# Altium integrated library ECE AD19Components_22V1.IntLib: 365 symbols (part 4 of 4)
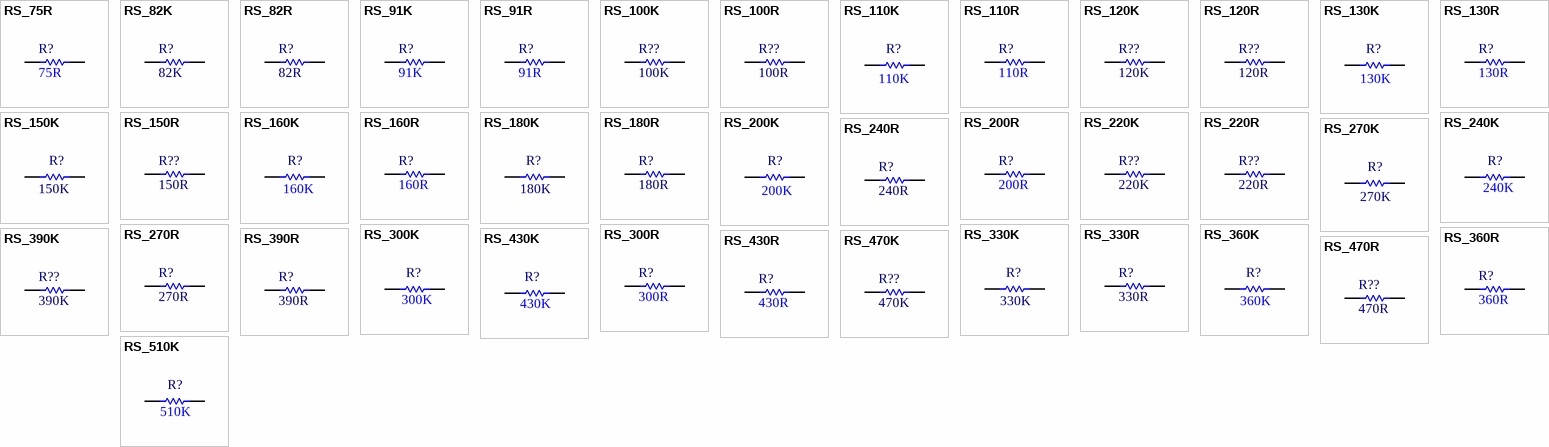
[diagram p15: symbols RS_75R to RS_510K]

## RS_240R
designator R?, comment 240R
RES 240 OHM 1/10W 5% 0603 SMD; Storage Location: PCB Assembly WS; Supplier: ECE Dept; Value: 240R
simulation model RESISTOR (Resistor)
signal-integrity model Res
footprint RESC1608L (Chip Resistor, Body 1.6x0.8mm, IPC High Density)
footprint RESC1608N (Chip Resistor, Body 1.6x0.8mm, IPC Medium Density)
pins: 1, 2

## RS_270K
designator R?, comment 270K
RES 270K OHM 1/10W 5% 0603 SMD; Storage Location: PCB Assembly WS; Supplier: ECE Dept; Value: 270K
footprint RESC1608L (Chip Resistor, Body 1.6x0.8mm, IPC High Density)
footprint RESC1608N (Chip Resistor, Body 1.6x0.8mm, IPC Medium Density)
signal-integrity model Res (Model Description)
simulation model RES (resistor)
pins: 1, 2

## RS_270R
designator R?, comment 270R
RES 270 OHM 1/10W 5% 0603 SMD; Storage Location: PCB Assembly WS; Supplier: ECE Dept; Value: 270R
simulation model RESISTOR (Resistor)
signal-integrity model Res
footprint RESC1608L (Chip Resistor, Body 1.6x0.8mm, IPC High Density)
footprint RESC1608N (Chip Resistor, Body 1.6x0.8mm, IPC Medium Density)
pins: 1, 2

## RS_300K
designator R?, comment 300K
RES 300K OHM 1/10W 5% 0603 SMD; Storage Location: PCB Assembly WS; Supplier: ECE Dept; Value: 300K
footprint RESC1608L (Chip Resistor, Body 1.6x0.8mm, IPC High Density)
footprint RESC1608N (Chip Resistor, Body 1.6x0.8mm, IPC Medium Density)
signal-integrity model Res (Model Description)
simulation model RES (resistor)
pins: 1, 2

## RS_300R
designator R?, comment 300R
RES 300 OHM 1/10W 5% 0603 SMD; Storage Location: PCB Assembly WS; Supplier: ECE Dept; Value: 300R
simulation model RESISTOR (Resistor)
signal-integrity model Res
footprint RESC1608L (Chip Resistor, Body 1.6x0.8mm, IPC High Density)
footprint RESC1608N (Chip Resistor, Body 1.6x0.8mm, IPC Medium Density)
pins: 1, 2

## RS_330K
designator R?, comment 330K
RES 330K OHM 1/10W 5% 0603 SMD; Storage Location: PCB Assembly WS; Supplier: ECE Dept; Value: 330K
footprint RESC1608L (Chip Resistor, Body 1.6x0.8mm, IPC High Density)
footprint RESC1608N (Chip Resistor, Body 1.6x0.8mm, IPC Medium Density)
signal-integrity model Res (Model Description)
simulation model RES (resistor)
pins: 1, 2

## RS_330R
designator R?, comment 330R
RES 330 OHM 1/10W 5% 0603 SMD; Storage Location: PCB Assembly WS; Supplier: ECE Dept; Value: 330R
simulation model RESISTOR (Resistor)
signal-integrity model Res
footprint RESC1608L (Chip Resistor, Body 1.6x0.8mm, IPC High Density)
footprint RESC1608N (Chip Resistor, Body 1.6x0.8mm, IPC Medium Density)
pins: 1, 2

## RS_360K
designator R?, comment 360K
RES 360K OHM 1/10W 5% 0603 SMD; Storage Location: PCB Assembly WS; Supplier: ECE Dept; Value: 360K
footprint RESC1608L (Chip Resistor, Body 1.6x0.8mm, IPC High Density)
footprint RESC1608N (Chip Resistor, Body 1.6x0.8mm, IPC Medium Density)
signal-integrity model Res (Model Description)
simulation model RES (resistor)
pins: 1, 2

## RS_360R
designator R?, comment 360R
RES 360 OHM 1/10W 5% 0603 SMD; Storage Location: PCB Assembly WS; Supplier: ECE Dept; Value: 360R
simulation model RESISTOR (Resistor)
signal-integrity model Res
footprint RESC1608L (Chip Resistor, Body 1.6x0.8mm, IPC High Density)
footprint RESC1608N (Chip Resistor, Body 1.6x0.8mm, IPC Medium Density)
pins: 1, 2

## RS_390K
designator R??, comment 390K
RES 390K OHM 1/10W 5% 0603 SMD; Storage Location: PCB Assembly WS; Supplier: ECE Dept; Value: 390K
simulation model RESISTOR (Resistor)
signal-integrity model Res
footprint RESC1608L (Chip Resistor, Body 1.6x0.8mm, IPC High Density)
footprint RESC1608N (Chip Resistor, Body 1.6x0.8mm, IPC Medium Density)
pins: 1, 2

## RS_390R
designator R?, comment 390R
RES 390 OHM 1/10W 5% 0603 SMD; Storage Location: PCB Assembly WS; Supplier: ECE Dept; Value: 390R
simulation model RESISTOR (Resistor)
signal-integrity model Res
footprint RESC1608L (Chip Resistor, Body 1.6x0.8mm, IPC High Density)
footprint RESC1608N (Chip Resistor, Body 1.6x0.8mm, IPC Medium Density)
pins: 1, 2

## RS_430K
designator R?, comment 430K
RES 430K OHM 1/10W 5% 0603 SMD; Storage Location: PCB Assembly WS; Supplier: ECE Dept; Value: 430K
footprint RESC1608L (Chip Resistor, Body 1.6x0.8mm, IPC High Density)
footprint RESC1608N (Chip Resistor, Body 1.6x0.8mm, IPC Medium Density)
signal-integrity model Res (Model Description)
simulation model RES (resistor)
pins: 1, 2

## RS_430R
designator R?, comment 430R
RES 430 OHM 1/10W 5% 0603 SMD; Storage Location: PCB Assembly WS; Supplier: ECE Dept; Value: 430R
simulation model RESISTOR (Resistor)
signal-integrity model Res
footprint RESC1608L (Chip Resistor, Body 1.6x0.8mm, IPC High Density)
footprint RESC1608N (Chip Resistor, Body 1.6x0.8mm, IPC Medium Density)
pins: 1, 2

## RS_470K
designator R??, comment 470K
RES 470K OHM 1/10W 5% 0603 SMD; Storage Location: PCB Assembly WS; Supplier: ECE Dept; Value: 470K
simulation model RESISTOR (Resistor)
signal-integrity model Res
footprint RESC1608L (Chip Resistor, Body 1.6x0.8mm, IPC High Density)
footprint RESC1608N (Chip Resistor, Body 1.6x0.8mm, IPC Medium Density)
pins: 1, 2

## RS_470R
designator R??, comment 470R
RES 470 OHM 1/10W 5% 0603 SMD; Storage Location: PCB Assembly WS; Supplier: ECE Dept; Value: 470R
simulation model RESISTOR (Resistor)
signal-integrity model Res
footprint RESC1608L (Chip Resistor, Body 1.6x0.8mm, IPC High Density)
footprint RESC1608N (Chip Resistor, Body 1.6x0.8mm, IPC Medium Density)
pins: 1, 2

## RS_510K
designator R?, comment 510K
RES 510K OHM 1/10W 5% 0603 SMD; Storage Location: PCB Assembly WS; Supplier: ECE Dept; Value: 510K
footprint RESC1608L (Chip Resistor, Body 1.6x0.8mm, IPC High Density)
footprint RESC1608N (Chip Resistor, Body 1.6x0.8mm, IPC Medium Density)
signal-integrity model Res (Model Description)
simulation model RES (resistor)
pins: 1, 2

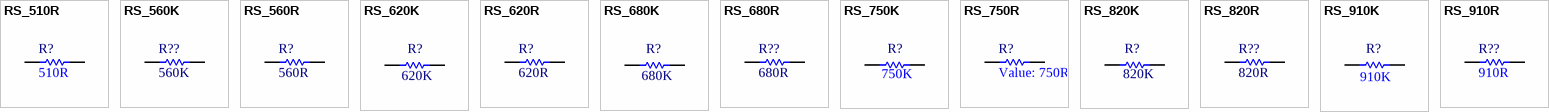
[diagram p10: symbols RS_510R to RS_910R]

## RS_510R
designator R?, comment 510R
RES 510 OHM 1/10W 5% 0603 SMD; Storage Location: PCB Assembly WS; Supplier: ECE Dept; Value: 510R
simulation model RESISTOR (Resistor)
signal-integrity model Res
footprint RESC1608L (Chip Resistor, Body 1.6x0.8mm, IPC High Density)
footprint RESC1608N (Chip Resistor, Body 1.6x0.8mm, IPC Medium Density)
pins: 1, 2

## RS_560K
designator R??, comment 560K
RES 560K OHM 1/10W 5% 0603 SMD; Storage Location: PCB Assembly WS; Supplier: ECE Dept; Value: 560K
simulation model RESISTOR (Resistor)
signal-integrity model Res
footprint RESC1608L (Chip Resistor, Body 1.6x0.8mm, IPC High Density)
footprint RESC1608N (Chip Resistor, Body 1.6x0.8mm, IPC Medium Density)
pins: 1, 2

## RS_560R
designator R?, comment 560R
RES 560 OHM 1/10W 5% 0603 SMD; Storage Location: PCB Assembly WS; Supplier: ECE Dept; Value: 560R
simulation model RESISTOR (Resistor)
signal-integrity model Res
footprint RESC1608L (Chip Resistor, Body 1.6x0.8mm, IPC High Density)
footprint RESC1608N (Chip Resistor, Body 1.6x0.8mm, IPC Medium Density)
pins: 1, 2

## RS_620K
designator R?, comment 620K
RES 620K OHM 1/10W 5% 0603 SMD; Storage Location: PCB Assembly WS; Supplier: ECE Dept; Value: 620K
footprint RESC1608L (Chip Resistor, Body 1.6x0.8mm, IPC High Density)
footprint RESC1608N (Chip Resistor, Body 1.6x0.8mm, IPC Medium Density)
signal-integrity model Res (Model Description)
simulation model RES (resistor)
pins: 1, 2

## RS_620R
designator R?, comment 620R
RES 620 OHM 1/10W 5% 0603 SMD; Storage Location: PCB Assembly WS; Supplier: ECE Dept; Value: 620R
simulation model RESISTOR (Resistor)
signal-integrity model Res
footprint RESC1608L (Chip Resistor, Body 1.6x0.8mm, IPC High Density)
footprint RESC1608N (Chip Resistor, Body 1.6x0.8mm, IPC Medium Density)
pins: 1, 2

## RS_680K
designator R?, comment 680K
RES 680K OHM 1/10W 5% 0603 SMD; Storage Location: PCB Assembly WS; Supplier: ECE Dept; Value: 680K
footprint RESC1608L (Chip Resistor, Body 1.6x0.8mm, IPC High Density)
footprint RESC1608N (Chip Resistor, Body 1.6x0.8mm, IPC Medium Density)
signal-integrity model Res (Model Description)
simulation model RES (resistor)
pins: 1, 2

## RS_680R
designator R??, comment 680R
RES 680 OHM 1/10W 5% 0603 SMD; Storage Location: PCB Assembly WS; Supplier: ECE Dept; Value: 680R
simulation model RESISTOR (Resistor)
signal-integrity model Res
footprint RESC1608L (Chip Resistor, Body 1.6x0.8mm, IPC High Density)
footprint RESC1608N (Chip Resistor, Body 1.6x0.8mm, IPC Medium Density)
pins: 1, 2

## RS_750K
designator R?, comment 750K
RES 750K OHM 1/10W 5% 0603 SMD; Storage Location: PCB Assembly WS; Supplier: ECE Dept; Value: 750K
footprint RESC1608L (Chip Resistor, Body 1.6x0.8mm, IPC High Density)
footprint RESC1608N (Chip Resistor, Body 1.6x0.8mm, IPC Medium Density)
signal-integrity model Res (Model Description)
simulation model RES (resistor)
pins: 1, 2

## RS_750R
designator R?, comment 750R
RES 750 OHM 1/10W 5% 0603 SMD; Storage Location: PCB Assembly WS; Supplier: ECE Dept; Value: 750R
simulation model RESISTOR (Resistor)
signal-integrity model Res
footprint RESC1608L (Chip Resistor, Body 1.6x0.8mm, IPC High Density)
footprint RESC1608N (Chip Resistor, Body 1.6x0.8mm, IPC Medium Density)
pins: 1, 2

## RS_820K
designator R?, comment 820K
RES 820K OHM 1/10W 5% 0603 SMD; Storage Location: PCB Assembly WS; Supplier: ECE Dept; Value: 820K
footprint RESC1608L (Chip Resistor, Body 1.6x0.8mm, IPC High Density)
footprint RESC1608N (Chip Resistor, Body 1.6x0.8mm, IPC Medium Density)
signal-integrity model Res (Model Description)
simulation model RES (resistor)
pins: 1, 2

## RS_820R
designator R??, comment 820R
RES 820 OHM 1/10W 5% 0603 SMD; Storage Location: PCB Assembly WS; Supplier: ECE Dept; Value: 820R
simulation model RESISTOR (Resistor)
signal-integrity model Res
footprint RESC1608L (Chip Resistor, Body 1.6x0.8mm, IPC High Density)
footprint RESC1608N (Chip Resistor, Body 1.6x0.8mm, IPC Medium Density)
pins: 1, 2

## RS_910K
designator R?, comment 910K
RES 910K OHM 1/10W 5% 0603 SMD; Storage Location: PCB Assembly WS; Supplier: ECE Dept; Value: 910K
footprint RESC1608L (Chip Resistor, Body 1.6x0.8mm, IPC High Density)
footprint RESC1608N (Chip Resistor, Body 1.6x0.8mm, IPC Medium Density)
signal-integrity model Res (Model Description)
simulation model RES (resistor)
pins: 1, 2

## RS_910R
designator R??, comment 910R
RES 910 OHM 1/10W 5% 0603 SMD; Storage Location: PCB Assembly WS; Supplier: ECE Dept; Value: 910R
simulation model RESISTOR (Resistor)
signal-integrity model Res
footprint RESC1608L (Chip Resistor, Body 1.6x0.8mm, IPC High Density)
footprint RESC1608N (Chip Resistor, Body 1.6x0.8mm, IPC Medium Density)
pins: 1, 2


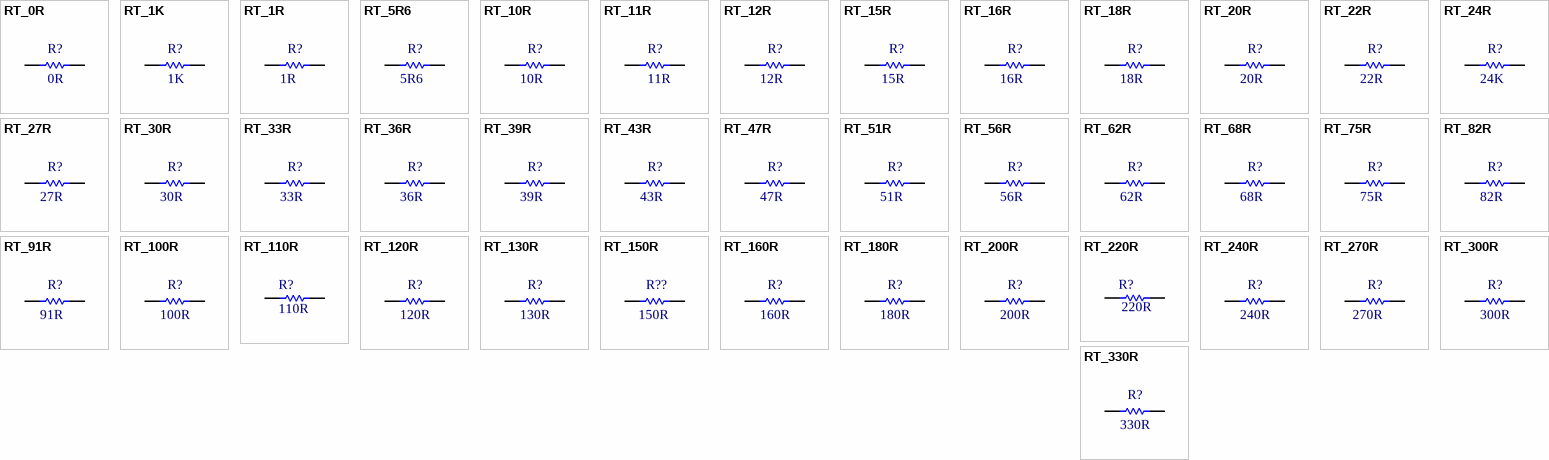
[diagram p11: symbols RT_0R to RT_330R]

## RT_0R
designator R?, comment 0R
RES 0R OHM 1/8W 5% 1206 SMD; Storage Location: PCB Assembly WS; Supplier: ECE Dept; Value: 0R
footprint RESC3216L (Chip Resistor, Body 3.1x1.6mm, IPC High Density)
footprint RESC3216M (Chip Resistor, Body 3.2x1.6mm, IPC Low Density)
footprint RESC3216N (Chip Resistor, Body 3.2x1.6mm, IPC Medium Density)
pins: 1, 2

## RT_1K
designator R?, comment 1K
RES 1K OHM 1/4W 5% 1206 SMD; Storage Location: PCB Assembly WS; Supplier: ECE Dept; Value: 1K
footprint RESC3216L (Chip Resistor, Body 3.1x1.6mm, IPC High Density)
footprint RESC3216M (Chip Resistor, Body 3.2x1.6mm, IPC Low Density)
footprint RESC3216N (Chip Resistor, Body 3.2x1.6mm, IPC Medium Density)
pins: 1, 2

## RT_1R
designator R?, comment 1R
RES 1R OHM 1/4W 5% 1206 SMD; Storage Location: PCB Assembly WS; Supplier: ECE Dept; Value: 1R
footprint RESC3216L (Chip Resistor, Body 3.1x1.6mm, IPC High Density)
footprint RESC3216M (Chip Resistor, Body 3.2x1.6mm, IPC Low Density)
footprint RESC3216N (Chip Resistor, Body 3.2x1.6mm, IPC Medium Density)
pins: 1, 2

## RT_5R6
designator R?, comment 5R6
RES 5R6 OHM 1/4W 5% 1206 SMD; Storage Location: PCB Assembly WS; Supplier: ECE Dept; Value: 5R6
footprint RESC3216L (Chip Resistor, Body 3.1x1.6mm, IPC High Density)
footprint RESC3216M (Chip Resistor, Body 3.2x1.6mm, IPC Low Density)
footprint RESC3216N (Chip Resistor, Body 3.2x1.6mm, IPC Medium Density)
pins: 1, 2

## RT_10R
designator R?, comment 10R
RES 10R OHM 1/4W 5% 1206 SMD; Storage Location: PCB Assembly WS; Supplier: ECE Dept; Value: 10R
footprint RESC3216L (Chip Resistor, Body 3.1x1.6mm, IPC High Density)
footprint RESC3216M (Chip Resistor, Body 3.2x1.6mm, IPC Low Density)
footprint RESC3216N (Chip Resistor, Body 3.2x1.6mm, IPC Medium Density)
pins: 1, 2

## RT_11R
designator R?, comment 11R
RES 11R OHM 1/4W 5% 1206 SMD; Storage Location: PCB Assembly WS; Supplier: ECE Dept; Value: 11R
footprint RESC3216L (Chip Resistor, Body 3.1x1.6mm, IPC High Density)
footprint RESC3216M (Chip Resistor, Body 3.2x1.6mm, IPC Low Density)
footprint RESC3216N (Chip Resistor, Body 3.2x1.6mm, IPC Medium Density)
pins: 1, 2

## RT_12R
designator R?, comment 12R
RES 12R OHM 1/4W 5% 1206 SMD; Storage Location: PCB Assembly WS; Supplier: ECE Dept; Value: 12R
footprint RESC3216L (Chip Resistor, Body 3.1x1.6mm, IPC High Density)
footprint RESC3216M (Chip Resistor, Body 3.2x1.6mm, IPC Low Density)
footprint RESC3216N (Chip Resistor, Body 3.2x1.6mm, IPC Medium Density)
pins: 1, 2

## RT_15R
designator R?, comment 15R
RES 15R OHM 1/4W 5% 1206 SMD; Storage Location: PCB Assembly WS; Supplier: ECE Dept; Value: 15R
footprint RESC3216L (Chip Resistor, Body 3.1x1.6mm, IPC High Density)
footprint RESC3216M (Chip Resistor, Body 3.2x1.6mm, IPC Low Density)
footprint RESC3216N (Chip Resistor, Body 3.2x1.6mm, IPC Medium Density)
signal-integrity model Res (Resistor)
pins: 1, 2

## RT_16R
designator R?, comment 16R
RES 16R OHM 1/4W 5% 1206 SMD; Storage Location: PCB Assembly WS; Supplier: ECE Dept; Value: 16R
footprint RESC3216L (Chip Resistor, Body 3.1x1.6mm, IPC High Density)
footprint RESC3216M (Chip Resistor, Body 3.2x1.6mm, IPC Low Density)
footprint RESC3216N (Chip Resistor, Body 3.2x1.6mm, IPC Medium Density)
pins: 1, 2

## RT_18R
designator R?, comment 18R
RES 18R OHM 1/4W 5% 1206 SMD; Storage Location: PCB Assembly WS; Supplier: ECE Dept; Value: 18R
footprint RESC3216L (Chip Resistor, Body 3.1x1.6mm, IPC High Density)
footprint RESC3216M (Chip Resistor, Body 3.2x1.6mm, IPC Low Density)
footprint RESC3216N (Chip Resistor, Body 3.2x1.6mm, IPC Medium Density)
pins: 1, 2

## RT_20R
designator R?, comment 20R
RES 20R OHM 1/4W 5% 1206 SMD; Storage Location: PCB Assembly WS; Supplier: ECE Dept; Value: 20R
footprint RESC3216L (Chip Resistor, Body 3.1x1.6mm, IPC High Density)
footprint RESC3216M (Chip Resistor, Body 3.2x1.6mm, IPC Low Density)
footprint RESC3216N (Chip Resistor, Body 3.2x1.6mm, IPC Medium Density)
pins: 1, 2

## RT_22R
designator R?, comment 22R
RES 22R OHM 1/4W 5% 1206 SMD; Storage Location: PCB Assembly WS; Supplier: ECE Dept; Value: 22R
footprint RESC3216L (Chip Resistor, Body 3.1x1.6mm, IPC High Density)
footprint RESC3216M (Chip Resistor, Body 3.2x1.6mm, IPC Low Density)
footprint RESC3216N (Chip Resistor, Body 3.2x1.6mm, IPC Medium Density)
pins: 1, 2

## RT_24R
designator R?, comment 24K
RES 24R OHM 1/4W 5% 1206 SMD; Storage Location: PCB Assembly WS; Supplier: ECE Dept; Value: 24K
footprint RESC3216L (Chip Resistor, Body 3.1x1.6mm, IPC High Density)
footprint RESC3216M (Chip Resistor, Body 3.2x1.6mm, IPC Low Density)
footprint RESC3216N (Chip Resistor, Body 3.2x1.6mm, IPC Medium Density)
pins: 1, 2

## RT_27R
designator R?, comment 27R
RES 27R OHM 1/4W 5% 1206 SMD; Storage Location: PCB Assembly WS; Supplier: ECE Dept; Value: 27R
footprint RESC3216L (Chip Resistor, Body 3.1x1.6mm, IPC High Density)
footprint RESC3216M (Chip Resistor, Body 3.2x1.6mm, IPC Low Density)
footprint RESC3216N (Chip Resistor, Body 3.2x1.6mm, IPC Medium Density)
pins: 1, 2

## RT_30R
designator R?, comment 30R
RES 30R OHM 1/4W 5% 1206 SMD; Storage Location: PCB Assembly WS; Supplier: ECE Dept; Value: 30R
footprint RESC3216L (Chip Resistor, Body 3.1x1.6mm, IPC High Density)
footprint RESC3216M (Chip Resistor, Body 3.2x1.6mm, IPC Low Density)
footprint RESC3216N (Chip Resistor, Body 3.2x1.6mm, IPC Medium Density)
pins: 1, 2

## RT_33R
designator R?, comment 33R
RES 33R OHM 1/4W 5% 1206 SMD; Storage Location: PCB Assembly WS; Supplier: ECE Dept; Value: 33R
footprint RESC3216L (Chip Resistor, Body 3.1x1.6mm, IPC High Density)
footprint RESC3216M (Chip Resistor, Body 3.2x1.6mm, IPC Low Density)
footprint RESC3216N (Chip Resistor, Body 3.2x1.6mm, IPC Medium Density)
pins: 1, 2

## RT_36R
designator R?, comment 36R
RES 36R OHM 1/4W 5% 1206 SMD; Storage Location: PCB Assembly WS; Supplier: ECE Dept; Value: 36R
footprint RESC3216L (Chip Resistor, Body 3.1x1.6mm, IPC High Density)
footprint RESC3216M (Chip Resistor, Body 3.2x1.6mm, IPC Low Density)
footprint RESC3216N (Chip Resistor, Body 3.2x1.6mm, IPC Medium Density)
pins: 1, 2

## RT_39R
designator R?, comment 39R
RES 39R OHM 1/4W 5% 1206 SMD; Storage Location: PCB Assembly WS; Supplier: ECE Dept; Value: 39R
footprint RESC3216L (Chip Resistor, Body 3.1x1.6mm, IPC High Density)
footprint RESC3216M (Chip Resistor, Body 3.2x1.6mm, IPC Low Density)
footprint RESC3216N (Chip Resistor, Body 3.2x1.6mm, IPC Medium Density)
pins: 1, 2

## RT_43R
designator R?, comment 43R
RES 43R OHM 1/4W 5% 1206 SMD; Storage Location: PCB Assembly WS; Supplier: ECE Dept; Value: 43R
footprint RESC3216L (Chip Resistor, Body 3.1x1.6mm, IPC High Density)
footprint RESC3216M (Chip Resistor, Body 3.2x1.6mm, IPC Low Density)
footprint RESC3216N (Chip Resistor, Body 3.2x1.6mm, IPC Medium Density)
pins: 1, 2

## RT_47R
designator R?, comment 47R
RES 47R OHM 1/4W 5% 1206 SMD; Storage Location: PCB Assembly WS; Supplier: ECE Dept; Value: 47R
footprint RESC3216L (Chip Resistor, Body 3.1x1.6mm, IPC High Density)
footprint RESC3216M (Chip Resistor, Body 3.2x1.6mm, IPC Low Density)
footprint RESC3216N (Chip Resistor, Body 3.2x1.6mm, IPC Medium Density)
pins: 1, 2

## RT_51R
designator R?, comment 51R
RES 51R OHM 1/4W 5% 1206 SMD; Storage Location: PCB Assembly WS; Supplier: ECE Dept; Value: 51R
footprint RESC3216L (Chip Resistor, Body 3.1x1.6mm, IPC High Density)
footprint RESC3216M (Chip Resistor, Body 3.2x1.6mm, IPC Low Density)
footprint RESC3216N (Chip Resistor, Body 3.2x1.6mm, IPC Medium Density)
pins: 1, 2

## RT_56R
designator R?, comment 56R
RES 56R OHM 1/4W 5% 1206 SMD; Storage Location: PCB Assembly WS; Supplier: ECE Dept; Value: 56R
footprint RESC3216L (Chip Resistor, Body 3.1x1.6mm, IPC High Density)
footprint RESC3216M (Chip Resistor, Body 3.2x1.6mm, IPC Low Density)
footprint RESC3216N (Chip Resistor, Body 3.2x1.6mm, IPC Medium Density)
pins: 1, 2

## RT_62R
designator R?, comment 62R
RES 62R OHM 1/4W 5% 1206 SMD; Storage Location: PCB Assembly WS; Supplier: ECE Dept; Value: 62R
footprint RESC3216L (Chip Resistor, Body 3.1x1.6mm, IPC High Density)
footprint RESC3216M (Chip Resistor, Body 3.2x1.6mm, IPC Low Density)
footprint RESC3216N (Chip Resistor, Body 3.2x1.6mm, IPC Medium Density)
pins: 1, 2

## RT_68R
designator R?, comment 68R
RES 68R OHM 1/4W 5% 1206 SMD; Storage Location: PCB Assembly WS; Supplier: ECE Dept; Value: 68R
footprint RESC3216L (Chip Resistor, Body 3.1x1.6mm, IPC High Density)
footprint RESC3216M (Chip Resistor, Body 3.2x1.6mm, IPC Low Density)
footprint RESC3216N (Chip Resistor, Body 3.2x1.6mm, IPC Medium Density)
pins: 1, 2

## RT_75R
designator R?, comment 75R
RES 75R OHM 1/4W 5% 1206 SMD; Storage Location: PCB Assembly WS; Supplier: ECE Dept; Value: 75R
footprint RESC3216L (Chip Resistor, Body 3.1x1.6mm, IPC High Density)
footprint RESC3216M (Chip Resistor, Body 3.2x1.6mm, IPC Low Density)
footprint RESC3216N (Chip Resistor, Body 3.2x1.6mm, IPC Medium Density)
pins: 1, 2

## RT_82R
designator R?, comment 82R
RES 82R OHM 1/4W 5% 1206 SMD; Storage Location: PCB Assembly WS; Supplier: ECE Dept; Value: 82R
footprint RESC3216L (Chip Resistor, Body 3.1x1.6mm, IPC High Density)
footprint RESC3216M (Chip Resistor, Body 3.2x1.6mm, IPC Low Density)
footprint RESC3216N (Chip Resistor, Body 3.2x1.6mm, IPC Medium Density)
pins: 1, 2

## RT_91R
designator R?, comment 91R
RES 91R OHM 1/4W 5% 1206 SMD; Storage Location: PCB Assembly WS; Supplier: ECE Dept; Value: 91R
footprint RESC3216L (Chip Resistor, Body 3.1x1.6mm, IPC High Density)
footprint RESC3216M (Chip Resistor, Body 3.2x1.6mm, IPC Low Density)
footprint RESC3216N (Chip Resistor, Body 3.2x1.6mm, IPC Medium Density)
pins: 1, 2

## RT_100R
designator R?, comment 100R
RES 100R OHM 1/4W 5% 1206 SMD; Storage Location: PCB Assembly WS; Supplier: ECE Dept; Value: 100R
footprint RESC3216L (Chip Resistor, Body 3.1x1.6mm, IPC High Density)
footprint RESC3216M (Chip Resistor, Body 3.2x1.6mm, IPC Low Density)
footprint RESC3216N (Chip Resistor, Body 3.2x1.6mm, IPC Medium Density)
pins: 1, 2

## RT_110R
designator R?, comment 110R
RES 110R OHM 1/4W 5% 1206 SMD; Verify: *; Storage Location: PCB Assembly WS; Supplier: ECE Dept; Value: 110R
footprint RESC3216L (Chip Resistor, Body 3.1x1.6mm, IPC High Density)
footprint RESC3216M (Chip Resistor, Body 3.2x1.6mm, IPC Low Density)
footprint RESC3216N (Chip Resistor, Body 3.2x1.6mm, IPC Medium Density)
pins: 1, 2

## RT_120R
designator R?, comment 120R
RES 12OR OHM 1/4W 5% 1206 SMD; Storage Location: PCB Assembly WS; Supplier: ECE Dept; Value: 120R
footprint RESC3216L (Chip Resistor, Body 3.1x1.6mm, IPC High Density)
footprint RESC3216M (Chip Resistor, Body 3.2x1.6mm, IPC Low Density)
footprint RESC3216N (Chip Resistor, Body 3.2x1.6mm, IPC Medium Density)
pins: 1, 2

## RT_130R
designator R?, comment 130R
RES 130R OHM 1/4W 5% 1206 SMD; Storage Location: PCB Assembly WS; Supplier: ECE Dept; Value: 130R
footprint RESC3216L (Chip Resistor, Body 3.1x1.6mm, IPC High Density)
footprint RESC3216M (Chip Resistor, Body 3.2x1.6mm, IPC Low Density)
footprint RESC3216N (Chip Resistor, Body 3.2x1.6mm, IPC Medium Density)
pins: 1, 2

## RT_150R
designator R??, comment 150R
RES 150R OHM 1/4W 5% 1206 SMD; Storage Location: PCB Assembly WS; Supplier: ECE Dept; Value: 150R
footprint RESC3216M (Chip Resistor, Body 3.2x1.6mm, IPC Low Density)
footprint RESC3216L (Chip Resistor, Body 3.1x1.6mm, IPC High Density)
footprint RESC3216N (Chip Resistor, Body 3.2x1.6mm, IPC Medium Density)
pins: 1, 2

## RT_160R
designator R?, comment 160R
RES 160R OHM 1/4W 5% 1206 SMD; Storage Location: PCB Assembly WS; Supplier: ECE Dept; Value: 160R
footprint RESC3216L (Chip Resistor, Body 3.1x1.6mm, IPC High Density)
footprint RESC3216M (Chip Resistor, Body 3.2x1.6mm, IPC Low Density)
footprint RESC3216N (Chip Resistor, Body 3.2x1.6mm, IPC Medium Density)
pins: 1, 2

## RT_180R
designator R?, comment 180R
RES 180R OHM 1/4W 5% 1206 SMD; Storage Location: PCB Assembly WS; Supplier: ECE Dept; Value: 180R
footprint RESC3216L (Chip Resistor, Body 3.1x1.6mm, IPC High Density)
footprint RESC3216M (Chip Resistor, Body 3.2x1.6mm, IPC Low Density)
footprint RESC3216N (Chip Resistor, Body 3.2x1.6mm, IPC Medium Density)
pins: 1, 2

## RT_200R
designator R?, comment 200R
RES 200R OHM 1/4W 5% 1206 SMD; Storage Location: PCB Assembly WS; Supplier: ECE Dept; Value: 200R
footprint RESC3216L (Chip Resistor, Body 3.1x1.6mm, IPC High Density)
footprint RESC3216M (Chip Resistor, Body 3.2x1.6mm, IPC Low Density)
footprint RESC3216N (Chip Resistor, Body 3.2x1.6mm, IPC Medium Density)
pins: 1, 2

## RT_220R
designator R?, comment 220R
RES 220R OHM 1/4W 5% 1206 SMD; Storage Location: PCB Assembly WS; Supplier: ECE Dept; Value: 220R
footprint RESC3216L (Chip Resistor, Body 3.1x1.6mm, IPC High Density)
footprint RESC3216M (Chip Resistor, Body 3.2x1.6mm, IPC Low Density)
footprint RESC3216N (Chip Resistor, Body 3.2x1.6mm, IPC Medium Density)
pins: 1, 2

## RT_240R
designator R?, comment 240R
RES 240R OHM 1/4W 5% 1206 SMD; Storage Location: PCB Assembly WS; Supplier: ECE Dept; Value: 240R
footprint RESC3216L (Chip Resistor, Body 3.1x1.6mm, IPC High Density)
footprint RESC3216M (Chip Resistor, Body 3.2x1.6mm, IPC Low Density)
footprint RESC3216N (Chip Resistor, Body 3.2x1.6mm, IPC Medium Density)
pins: 1, 2

## RT_270R
designator R?, comment 270R
RES 270R OHM 1/4W 5% 1206 SMD; Storage Location: PCB Assembly WS; Supplier: ECE Dept; Value: 270R
footprint RESC3216L (Chip Resistor, Body 3.1x1.6mm, IPC High Density)
footprint RESC3216M (Chip Resistor, Body 3.2x1.6mm, IPC Low Density)
footprint RESC3216N (Chip Resistor, Body 3.2x1.6mm, IPC Medium Density)
pins: 1, 2

## RT_300R
designator R?, comment 300R
RES 300R OHM 1/4W 5% 1206 SMD; Storage Location: PCB Assembly WS; Supplier: ECE Dept; Value: 300R
footprint RESC3216L (Chip Resistor, Body 3.1x1.6mm, IPC High Density)
footprint RESC3216M (Chip Resistor, Body 3.2x1.6mm, IPC Low Density)
footprint RESC3216N (Chip Resistor, Body 3.2x1.6mm, IPC Medium Density)
pins: 1, 2

## RT_330R
designator R?, comment 330R
RES 300R OHM 1/4W 5% 1206 SMD; Storage Location: PCB Assembly WS; Supplier: ECE Dept; Value: 330R
footprint RESC3216L (Chip Resistor, Body 3.1x1.6mm, IPC High Density)
footprint RESC3216M (Chip Resistor, Body 3.2x1.6mm, IPC Low Density)
footprint RESC3216N (Chip Resistor, Body 3.2x1.6mm, IPC Medium Density)
pins: 1, 2

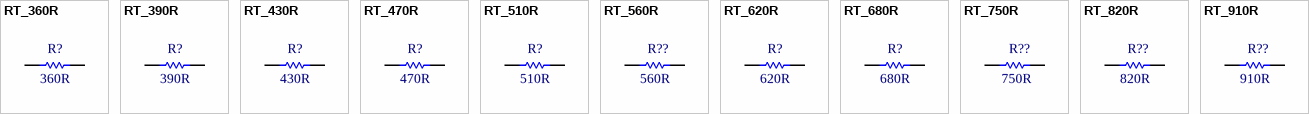
[diagram p12: symbols RT_360R to RT_910R]

## RT_360R
designator R?, comment 360R
RES 360R OHM 1/4W 5% 1206 SMD; Storage Location: PCB Assembly WS; Supplier: ECE Dept; Value: 360R
footprint RESC3216L (Chip Resistor, Body 3.1x1.6mm, IPC High Density)
footprint RESC3216M (Chip Resistor, Body 3.2x1.6mm, IPC Low Density)
footprint RESC3216N (Chip Resistor, Body 3.2x1.6mm, IPC Medium Density)
pins: 1, 2

## RT_390R
designator R?, comment 390R
RES 390R OHM 1/4W 5% 1206 SMD; Storage Location: PCB Assembly WS; Supplier: ECE Dept; Value: 390R
footprint RESC3216L (Chip Resistor, Body 3.1x1.6mm, IPC High Density)
footprint RESC3216M (Chip Resistor, Body 3.2x1.6mm, IPC Low Density)
footprint RESC3216N (Chip Resistor, Body 3.2x1.6mm, IPC Medium Density)
pins: 1, 2

## RT_430R
designator R?, comment 430R
RES 430R OHM 1/4W 5% 1206 SMD; Storage Location: PCB Assembly WS; Supplier: ECE Dept; Value: 430R
footprint RESC3216L (Chip Resistor, Body 3.1x1.6mm, IPC High Density)
footprint RESC3216M (Chip Resistor, Body 3.2x1.6mm, IPC Low Density)
footprint RESC3216N (Chip Resistor, Body 3.2x1.6mm, IPC Medium Density)
pins: 1, 2

## RT_470R
designator R?, comment 470R
RES 470R OHM 1/4W 5% 1206 SMD; Storage Location: PCB Assembly WS; Supplier: ECE Dept; Value: 470R
footprint RESC3216L (Chip Resistor, Body 3.1x1.6mm, IPC High Density)
footprint RESC3216M (Chip Resistor, Body 3.2x1.6mm, IPC Low Density)
footprint RESC3216N (Chip Resistor, Body 3.2x1.6mm, IPC Medium Density)
pins: 1, 2

## RT_510R
designator R?, comment 510R
RES 510R OHM 1/4W 5% 1206 SMD; Storage Location: PCB Assembly WS; Supplier: ECE Dept; Value: 510R
footprint RESC3216L (Chip Resistor, Body 3.1x1.6mm, IPC High Density)
footprint RESC3216M (Chip Resistor, Body 3.2x1.6mm, IPC Low Density)
footprint RESC3216N (Chip Resistor, Body 3.2x1.6mm, IPC Medium Density)
pins: 1, 2

## RT_560R
designator R??, comment 560R
RES 560R OHM 1/4W 5% 1206 SMD; Storage Location: PCB Assembly WS; Supplier: ECE Dept; Value: 560R
footprint RESC3216L (Chip Resistor, Body 3.1x1.6mm, IPC High Density)
footprint RESC3216M (Chip Resistor, Body 3.2x1.6mm, IPC Low Density)
footprint RESC3216N (Chip Resistor, Body 3.2x1.6mm, IPC Medium Density)
pins: 1, 2

## RT_620R
designator R?, comment 620R
RES 620R OHM 1/4W 5% 1206 SMD; Storage Location: PCB Assembly WS; Supplier: ECE Dept; Value: 620R
footprint RESC3216L (Chip Resistor, Body 3.1x1.6mm, IPC High Density)
footprint RESC3216M (Chip Resistor, Body 3.2x1.6mm, IPC Low Density)
footprint RESC3216N (Chip Resistor, Body 3.2x1.6mm, IPC Medium Density)
pins: 1, 2

## RT_680R
designator R?, comment 680R
RES 680R OHM 1/4W 5% 1206 SMD; Storage Location: PCB Assembly WS; Supplier: ECE Dept; Value: 680R
footprint RESC3216L (Chip Resistor, Body 3.1x1.6mm, IPC High Density)
footprint RESC3216M (Chip Resistor, Body 3.2x1.6mm, IPC Low Density)
footprint RESC3216N (Chip Resistor, Body 3.2x1.6mm, IPC Medium Density)
pins: 1, 2

## RT_750R
designator R??, comment 750R
RES 750R OHM 1/4W 5% 1206 SMD; Storage Location: PCB Assembly WS; Supplier: ECE Dept; Value: 750R
footprint RESC3216L (Chip Resistor, Body 3.1x1.6mm, IPC High Density)
footprint RESC3216M (Chip Resistor, Body 3.2x1.6mm, IPC Low Density)
footprint RESC3216N (Chip Resistor, Body 3.2x1.6mm, IPC Medium Density)
pins: 1, 2

## RT_820R
designator R??, comment 820R
RES 820R OHM 1/4W 5% 1206 SMD; Storage Location: PCB Assembly WS; Supplier: ECE Dept; Value: 820R
footprint RESC3216L (Chip Resistor, Body 3.1x1.6mm, IPC High Density)
footprint RESC3216M (Chip Resistor, Body 3.2x1.6mm, IPC Low Density)
footprint RESC3216N (Chip Resistor, Body 3.2x1.6mm, IPC Medium Density)
pins: 1, 2

## RT_910R
designator R??, comment 910R
RES 910R OHM 1/4W 5% 1206 SMD; Storage Location: PCB Assembly WS; Supplier: ECE Dept; Value: 910R
footprint RESC3216L (Chip Resistor, Body 3.1x1.6mm, IPC High Density)
footprint RESC3216M (Chip Resistor, Body 3.2x1.6mm, IPC Low Density)
footprint RESC3216N (Chip Resistor, Body 3.2x1.6mm, IPC Medium Density)
pins: 1, 2